# Altium schematic symbol library NuBots.SchLib: 13 symbols
Pins are listed as number, name and electrical type; pins without a type are passive.

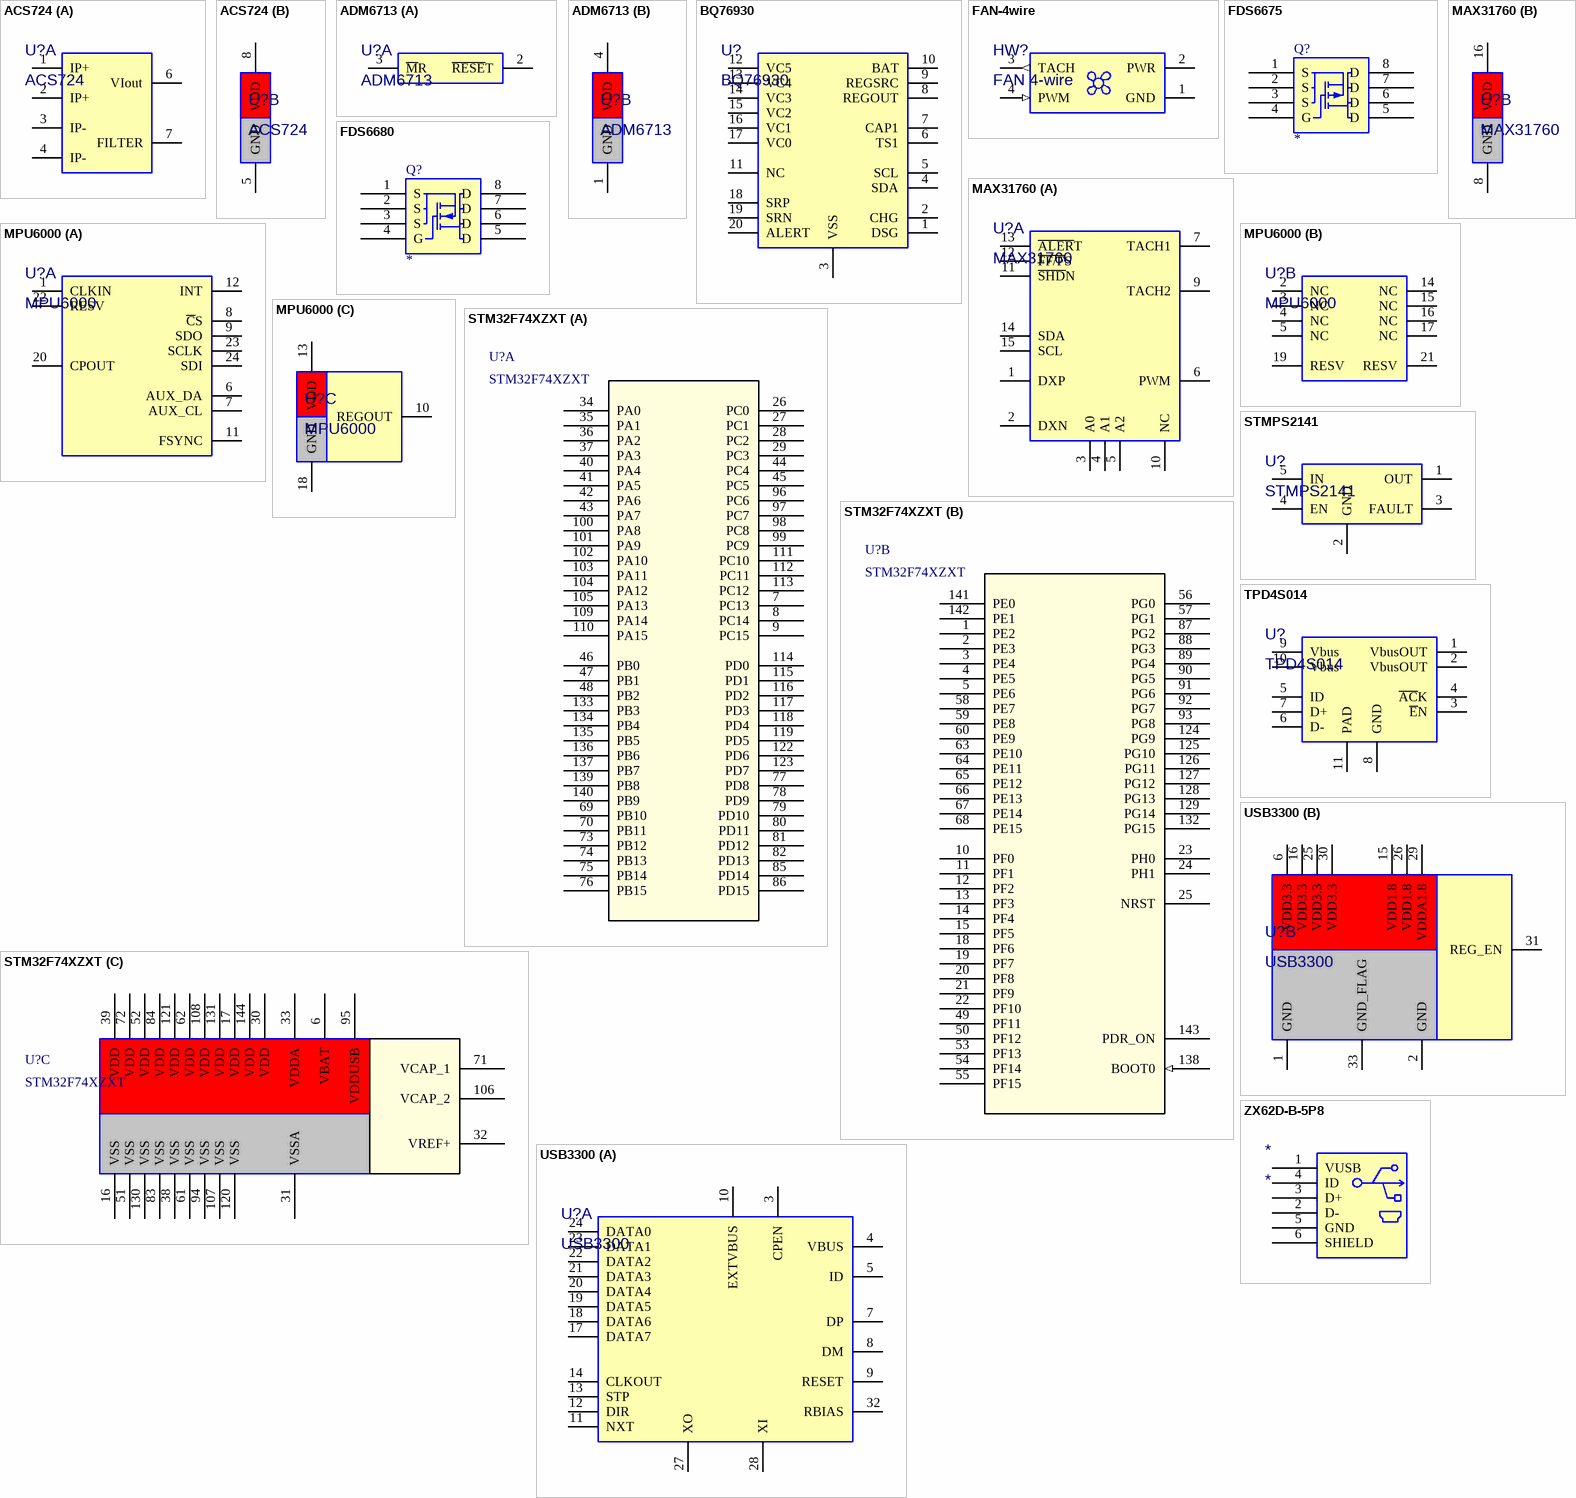
[diagram p0: symbols ACS724 to ZX62D-B-5P8]

## ACS724
designator U?
Current Monitor
part A pins: 1 IP+, 2 IP+, 3 IP-, 4 IP-, 6 VIout, 7 FILTER
part B pins: 5 GND (power), 8 VDD (power)

## ADM6713
designator U?
part A pins: 2 ~{RESE}T, 3 ~{M}R
part B pins: 1 GND (power), 4 VDD (power)

## BQ76930
designator U?
Battery Monitor
pins: 1 DSG, 2 CHG, 3 VSS, 4 SDA, 5 SCL, 6 TS1, 7 CAP1, 8 REGOUT, 9 REGSRC, 10 BAT, 11 NC, 12 VC5, 13 VC4, 14 VC3, 15 VC2, 16 VC1, 17 VC0, 18 SRP, 19 SRN, 20 ALERT

## FAN-4wire
designator HW?, comment FAN 4-wire
4-Wire Fan
pins: 1 GND (power), 2 PWR (power), 3 TACH (out), 4 PWM (in)

## FDS6675
designator Q?
40V P-Channel PowerTrench MOSFET; Text Field1: 340*101620; Comment_1: *
footprint SO-8
pins: 1 S (power), 2 S (power), 3 S (power), 4 G (power), 5 D (power), 6 D (power), 7 D (power), 8 D (power)

## FDS6680
designator Q?
30V N-Channel PowerTrench MOSFET; Comment_1: *
footprint SO-8
pins: 1 S (power), 2 S (power), 3 S (power), 4 G (power), 5 D (power), 6 D (power), 7 D (power), 8 D (power)

## MAX31760
designator U?
Precision Fan Speed
part A pins: 1 DXP, 2 DXN, 3 A0, 4 A1, 5 A2, 6 PWM, 7 TACH1, 9 TACH2, 10 NC, 11 ~{SHD}N, 12 ~{FF/F}S, 13 ~{ALER}T, 14 SDA, 15 SCL
part B pins: 8 GND (power), 16 VDD (power)

## MPU6000
designator U?
Motion Tracking
part A pins: 1 CLKIN, 6 AUX_DA, 7 AUX_CL, 8 ~{C}S, 9 SDO, 11 FSYNC, 12 INT, 20 CPOUT, 22 RESV, 23 SCLK, 24 SDI
part B pins: 2 NC, 3 NC, 4 NC, 5 NC, 14 NC, 15 NC, 16 NC, 17 NC, 19 RESV, 21 RESV
part C pins: 10 REGOUT, 13 VDD (power), 18 GND (power)

## STM32F74XZXT
designator U?
32-bit Microcontroller; Vendor: STMicroelectronics; C: Copyright (C) 2016 Accelerated Designs. All rights reserved; Manufacturer_Part_Number: stm32f74xzxt; Copyright: Copyright (C) 2016 Accelerated Designs. All rights reserved; Value: Value; Type: Type; RefDes: RefDes
footprint LQFP-144_20X20mm
part A pins: 7 PC13, 8 PC14, 9 PC15, 26 PC0, 27 PC1, 28 PC2, 29 PC3, 34 PA0, 35 PA1, 36 PA2, 37 PA3, 40 PA4, 41 PA5, 42 PA6, 43 PA7, 44 PC4, 45 PC5, 46 PB0, 47 PB1, 48 PB2, 69 PB10, 70 PB11, 73 PB12, 74 PB13, 75 PB14, 76 PB15, 77 PD8, 78 PD9, 79 PD10, 80 PD11, 81 PD12, 82 PD13, 85 PD14, 86 PD15, 96 PC6, 97 PC7, 98 PC8, 99 PC9, 100 PA8, 101 PA9, 102 PA10, 103 PA11, 104 PA12, 105 PA13, 109 PA14, 110 PA15, 111 PC10, 112 PC11, 113 PC12, 114 PD0, 115 PD1, 116 PD2, 117 PD3, 118 PD4, 119 PD5, 122 PD6, 123 PD7, 133 PB3, 134 PB4, 135 PB5, 136 PB6, 137 PB7, 139 PB8, 140 PB9
part B pins: 1 PE2, 2 PE3, 3 PE4, 4 PE5, 5 PE6, 10 PF0, 11 PF1, 12 PF2, 13 PF3, 14 PF4, 15 PF5, 18 PF6, 19 PF7, 20 PF8, 21 PF9, 22 PF10, 23 PH0, 24 PH1, 25 NRST, 49 PF11, 50 PF12, 53 PF13, 54 PF14, 55 PF15, 56 PG0, 57 PG1, 58 PE7, 59 PE8, 60 PE9, 63 PE10, 64 PE11, 65 PE12, 66 PE13, 67 PE14, 68 PE15, 87 PG2, 88 PG3, 89 PG4, 90 PG5, 91 PG6, 92 PG7, 93 PG8, 124 PG9, 125 PG10, 126 PG11, 127 PG12, 128 PG13, 129 PG14, 132 PG15, 138 BOOT0 (in), 141 PE0, 142 PE1, 143 PDR_ON
part C pins: 6 VBAT (power), 16 VSS (power), 17 VDD (power), 30 VDD (power), 31 VSSA (power), 32 VREF+ (power), 33 VDDA (power), 38 VSS (power), 39 VDD (power), 51 VSS (power), 52 VDD (power), 61 VSS (power), 62 VDD (power), 71 VCAP_1 (power), 72 VDD (power), 83 VSS (power), 84 VDD (power), 94 VSS (power), 95 VDDUSB (power), 106 VCAP_2 (power), 107 VSS (power), 108 VDD (power), 120 VSS (power), 121 VDD (power), 130 VSS (power), 131 VDD (power), 144 VDD (power)

## STMPS2141
designator U?
Power Switch
footprint SOT-23-5(LB)
pins: 1 OUT, 2 GND (power), 3 FAULT, 4 EN, 5 IN (power)

## TPD4S014
designator U?
USB Charger Port Protector
pins: 1 VbusOUT (power), 2 VbusOUT (power), 3 ~{E}N, 4 ~{AC}K, 5 ID, 6 D-, 7 D+, 8 GND (power), 9 Vbus (power), 10 Vbus (power), 11 PAD (power)

## USB3300
designator U?
USB Host Controller
footprint QFN-32_L (QFN, 32-Leads, Body 5x5mm, Pitch 0.5mm, Thermal Pad 3.7x3.7mm, IPC High Density)
part A pins: 3 CPEN, 4 VBUS, 5 ID, 7 DP, 8 DM, 9 RESET, 10 EXTVBUS, 11 NXT, 12 DIR, 13 STP, 14 CLKOUT, 17 DATA7, 18 DATA6, 19 DATA5, 20 DATA4, 21 DATA3, 22 DATA2, 23 DATA1, 24 DATA0, 27 XO, 28 XI, 32 RBIAS
part B pins: 1 GND (power), 2 GND (power), 6 VDD3.3 (power), 15 VDD1.8 (power), 16 VDD3.3 (power), 25 VDD3.3 (power), 26 VDD1.8 (power), 29 VDDA1.8 (power), 30 VDD3.3 (power), 31 REG_EN, 33 GND_FLAG (power)

## ZX62D-B-5P8
designator *
pins: 1 VUSB, 2 D-, 3 D+, 4 ID, 5 GND, 6 SHIELD